# Altium footprint library tilepcb.PCBLIB: 58 footprints (part 3 of 4)
Each footprint in its own frame and in the unit in brackets; x right, y up, seen from the top. Pads: shape width x height; smd on the part's side, far side on the other; paste and mask are expansions set on the pad; w line width, h text height; cw(c..) or ccw(c..) is an arc to the next point about the centre after c.
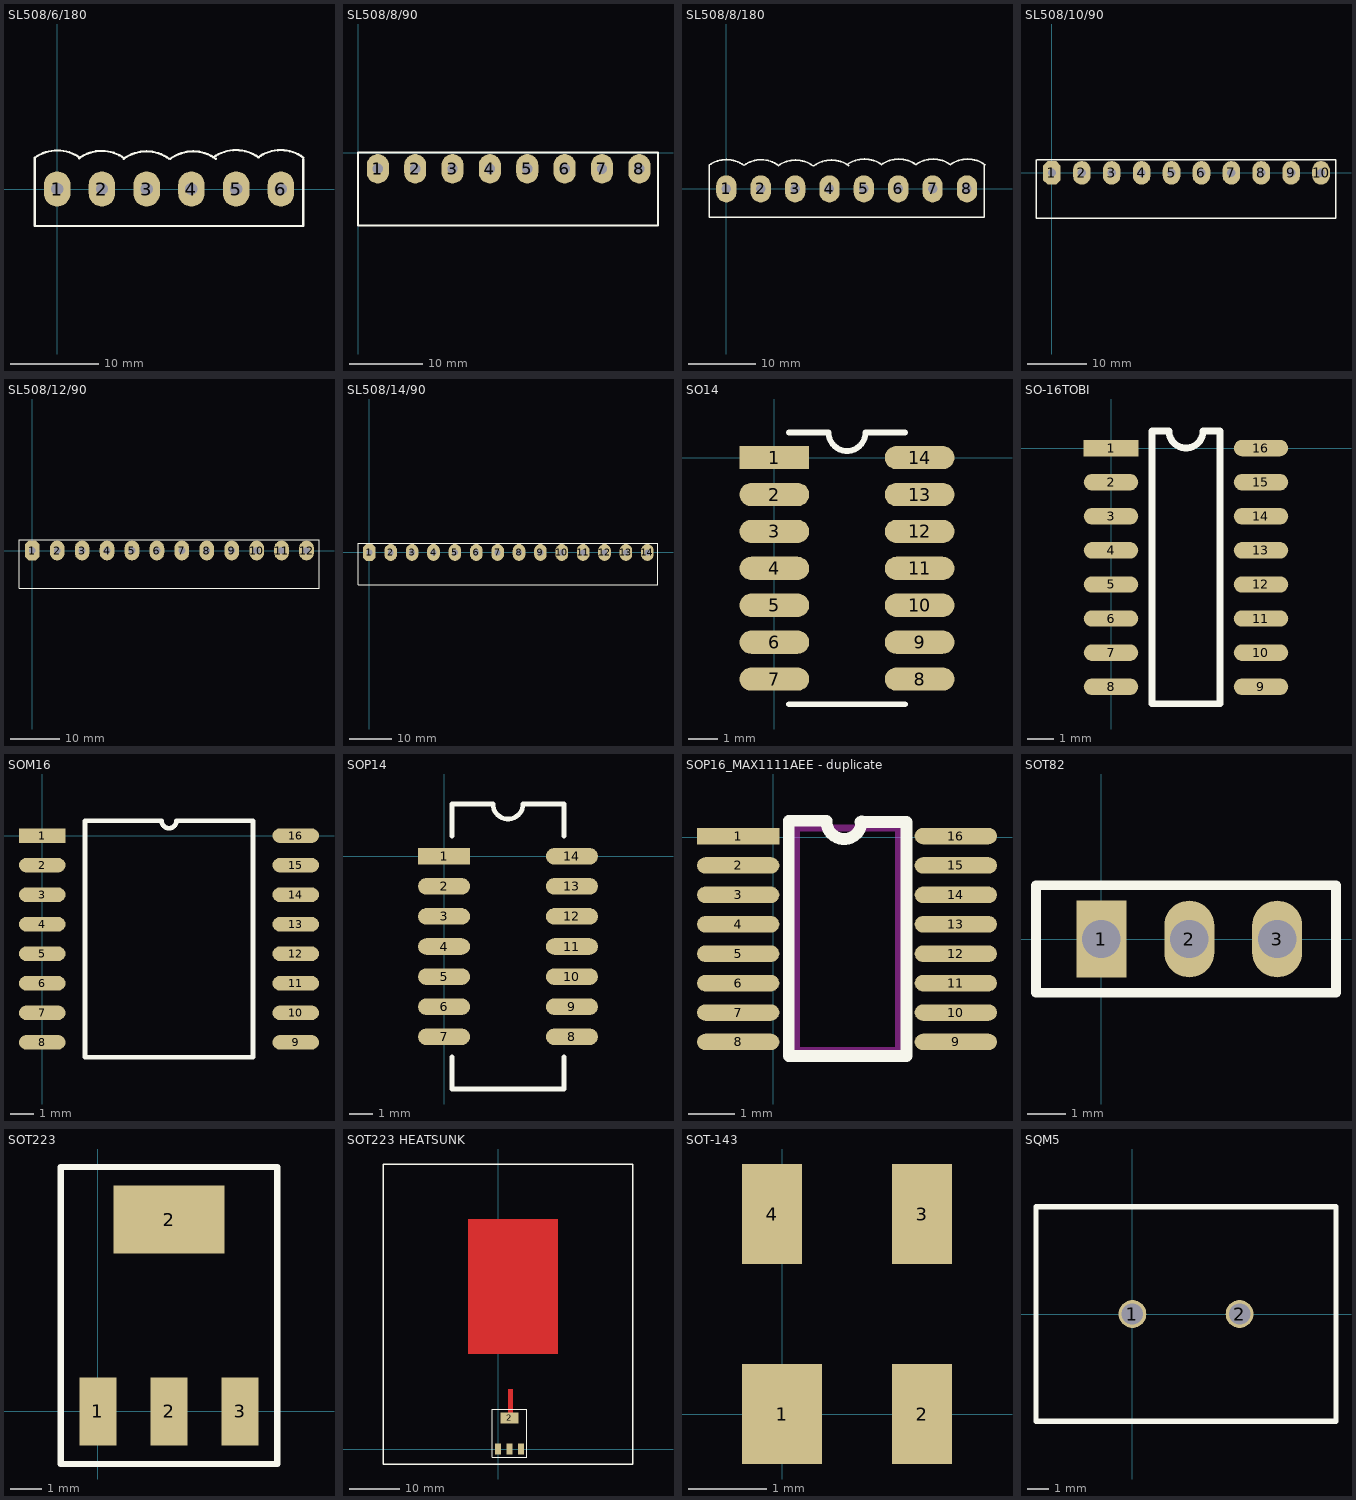
[diagram p2: the footprints below, top view; thin cyan lines are the x and y axes]

## SL508/6/180 [mm]
pads (6):
  oval 3x4 hole 1.4: 1(0,0) 2(5.08,0) 3(10.16,0) 4(15.24,0) 5(20.32,0) 6(25.4,0)
TopOverlay:
  lines w0.254: 2.5,3.5 cw(c5.056,-0.02) 7.642,3.478 ; 2.602,3.534 ccw(c0.016,0.036) -2.54,3.556 -2.54,-4.2 27.94,-4.2 27.94,3.42 ; 7.564,3.452 cw(c10.12,-0.069) 12.706,3.43 ; 12.864,3.452 cw(c15.42,-0.069) 18.006,3.43 ; 17.74,3.6 cw(c20.296,0.08) 22.882,3.578 ; 22.82,3.6 cw(c25.376,0.08) 27.962,3.578

## SL508/8/90 [mm]
pads (8):
  oval 3x4 hole 1.4: 1(2.7,-2.2) 2(7.78,-2.2) 3(12.86,-2.2) 4(17.94,-2.2) 5(23.02,-2.2) 6(28.1,-2.2) 7(33.18,-2.2) 8(38.26,-2.2)
TopOverlay:
  lines w0.254: 0,0 0,-9.9 40.8,-9.9 40.8,0 0.16,0

## SL508/8/180 [mm]
pads (8):
  oval 3x4 hole 1.4: 1(0,0) 2(5.08,0) 3(10.16,0) 4(15.24,0) 5(20.32,0) 6(25.4,0) 7(30.48,0) 8(35.56,0)
TopOverlay:
  lines w0.254: -2.547,3.492 cw(c0.008,-0.028) 2.594,3.47 cw(c5.15,-0.05) 7.736,3.448 ; -2.54,3.42 -2.54,-4.2 38.1,-4.2 38.1,3.52 ; 7.658,3.422 cw(c10.214,-0.098) 12.8,3.4 ; 12.958,3.422 cw(c15.514,-0.098) 18.1,3.4 ; 17.834,3.57 cw(c20.39,0.05) 22.976,3.548 ; 22.914,3.57 cw(c25.47,0.05) 28.056,3.548 ; 27.994,3.57 cw(c30.55,0.05) 33.136,3.548 ; 33.094,3.57 cw(c35.65,0.05) 38.236,3.548

## SL508/10/90 [mm] "Weidmuller 10 pin right angle header"
height 8
pads (10):
  oct 3x4 hole 1.4: 1(0,0)
  oval 3x4 hole 1.4: 2(5.08,0) 3(10.16,0) 4(15.24,0) 5(20.32,0) 6(25.4,0) 7(30.48,0) 8(35.56,0) 9(40.64,0) 10(45.72,0)
TopOverlay:
  lines w0.254: -2.7,2.2 -2.7,-7.7 48.26,-7.7 48.26,2.2 -2.54,2.2

## SL508/12/90 [mm] "Weidmuller 12 pin right angle header"
height 8
pads (12):
  oct 3x4 hole 1.4: 1(0,0)
  oval 3x4 hole 1.4: 2(5.08,0) 3(10.16,0) 4(15.24,0) 5(20.32,0) 6(25.4,0) 7(30.48,0) 8(35.56,0) 9(40.64,0) 10(45.72,0) 11(50.8,0) 12(55.88,0)
TopOverlay:
  lines w0.254: -2.7,2.2 -2.7,-7.7 58.42,-7.7 58.42,2.2 -2.54,2.2

## SL508/14/90 [mm] "Weidmuller 14 pin right angle header"
height 8
pads (14):
  oct 3x4 hole 1.4: 1(0,0)
  oval 3x4 hole 1.4: 2(5.08,0) 3(10.16,0) 4(15.24,0) 5(20.32,0) 6(25.4,0) 7(30.48,0) 8(35.56,0) 9(40.64,0) 10(45.72,0) 11(50.8,0) 12(55.88,0) 13(60.96,0) 14(66.04,0)
TopOverlay:
  lines w0.254: -2.7,2.2 -2.7,-7.7 68.58,-7.7 68.58,2.2 -2.54,2.2

## SO14 [mm]
pads (14):
  rect 2.4x0.8 smd: 1(0,0)
  oval 2.4x0.8 smd: 2(0,-1.27) 3(0,-2.54) 4(0,-3.81) 5(0,-5.08) 6(0,-6.35) 7(0,-7.62) 8(5,-7.62) 9(5,-6.35) 10(5,-5.08) 11(5,-3.81) 12(5,-2.54) 13(5,-1.27) 14(5,0)
TopOverlay:
  lines w0.2: 0.5,-8.485 4.5,-8.485 ; 0.5,0.865 1.865,0.865 ccw(c2.5,0.865) 3.135,0.865 4.5,0.865

## SO-16TOBI [mil]
pads (16):
  rect 80x24 smd: 1(0,0)
  oval 80x24 smd: 2(0,-50) 3(0,-100) 4(0,-150) 5(0,-200) 6(0,-250) 7(0,-300) 8(0,-350) 9(220,-350) 10(220,-300) 11(220,-250) 12(220,-200) 13(220,-150) 14(220,-100) 15(220,-50) 16(220,0)
TopOverlay:
  lines w10: 60,-375 60,25 85,25 ccw(c110,25) 135,25 160,25 160,-375 60,-375

## SOM16 [mm]
pads (16):
  rect 2x0.63 smd: 1(0,0)
  oval 2x0.63 smd: 2(0,-1.27) 3(0,-2.54) 4(0,-3.81) 5(0,-5.08) 6(0,-6.35) 7(0,-7.62) 8(0,-8.89) 9(10.9,-8.89) 10(10.9,-7.62) 11(10.9,-6.35) 12(10.9,-5.08) 13(10.9,-3.81) 14(10.9,-2.54) 15(10.9,-1.27) 16(10.9,0)
TopOverlay:
  lines w0.2: 1.835,-9.525 1.835,0.635 5.132,0.635 ccw(c5.45,0.635) 5.767,0.635 9.065,0.635 9.065,-9.525 1.835,-9.525

## SOP14 [mm]
pads (14):
  rect 2.2x0.7 smd: 1(0,0)
  oval 2.2x0.7 smd: 2(0,-1.27) 3(0,-2.54) 4(0,-3.81) 5(0,-5.08) 6(0,-6.35) 7(0,-7.62) 8(5.4,-7.62) 9(5.4,-6.35) 10(5.4,-5.08) 11(5.4,-3.81) 12(5.4,-2.54) 13(5.4,-1.27) 14(5.4,0)
TopOverlay:
  lines w0.2: 0.34,-8.47 0.34,-9.825 5.06,-9.825 5.06,-8.47 ; 0.34,0.85 0.34,2.205 2.065,2.205 ccw(c2.7,2.205) 3.335,2.205 5.06,2.205 5.06,0.85

## SOP16_MAX1111AEE - duplicate [mil]
pads (16):
  rect 70x14 smd: 1(-30,1)
  oval 70x14 smd: 2(-30,-24) 3(-30,-49) 4(-30,-74) 5(-30,-99) 6(-30,-124) 7(-30,-149) 8(-30,-174) 9(155,-174) 10(155,-149) 11(155,-124) 12(155,-99) 13(155,-74) 14(155,-49) 15(155,-24) 16(155,1)
TopOverlay:
  lines w10: 45,13.5 ccw(c60,13.5) 75,13.5 ; 45,14 13,14 13,-186 113,-186 113,13 74,13
KeepOutLayer:
  lines w6: 19.68,-181.1 19.68,7.87 106.3,7.87 106.3,-181.1 19.68,-181.1

## SOT82 [mm]
pads (3):
  rect 1.3x2 hole 1: 1(0,0)
  oval 1.3x2 hole 1: 2(2.286,0) 3(4.572,0)
TopOverlay:
  lines w0.254: -1.7,-1.4 -1.7,1.4 6.1,1.4 6.1,-1.4 -1.7,-1.4

## SOT223 [mm]
pads (4):
  rect 1.2x2.2 smd: 1(0,0) 2(2.3,0) 3(4.6,0)
  rect 3.6x2.2 smd: 2(2.3,6.2)
TopOverlay:
  lines w0.2: -1.2,-1.7 -1.2,7.9 5.8,7.9 5.8,-1.7 -1.2,-1.7

## SOT223 HEATSUNK [mm]
pads (4):
  rect 1.2x2.2 smd: 1(0,0) 2(2.3,0) 3(4.6,0)
  rect 3.6x2.2 smd: 2(2.3,6.2)
TopLayer:
  rectangle: 2,7 3,12
  rectangle: -6,19 12,46
TopOverlay:
  lines w0.2: -1.2,-1.7 5.8,-1.7 5.8,7.9 -1.2,7.9 -1.2,-1.7
  lines w0.254: -23,-3 27,-3 27,57 -23,57 -23,-3

## SOT-143 [mil]
pads (4):
  rect 40x50 smd: 1(0,0)
  rect 30x50 smd: 2(70,0) 3(70,100) 4(-5,100)

## SQM5 [mm]
pads (2):
  round 1.3 hole 1: 1(0,0) 2(5,0)
TopOverlay:
  lines w0.254: -4.5,-5 -4.5,5 9.5,5 9.5,-5 -4.5,-5